# Altium footprint library pulse control.PcbLib: 23 footprints (part 1 of 2)
Each footprint in its own frame and in the unit in brackets; x right, y up, seen from the top. Pads: shape width x height; smd on the part's side, far side on the other; paste and mask are expansions set on the pad; w line width, h text height; cw(c..) or ccw(c..) is an arc to the next point about the centre after c.
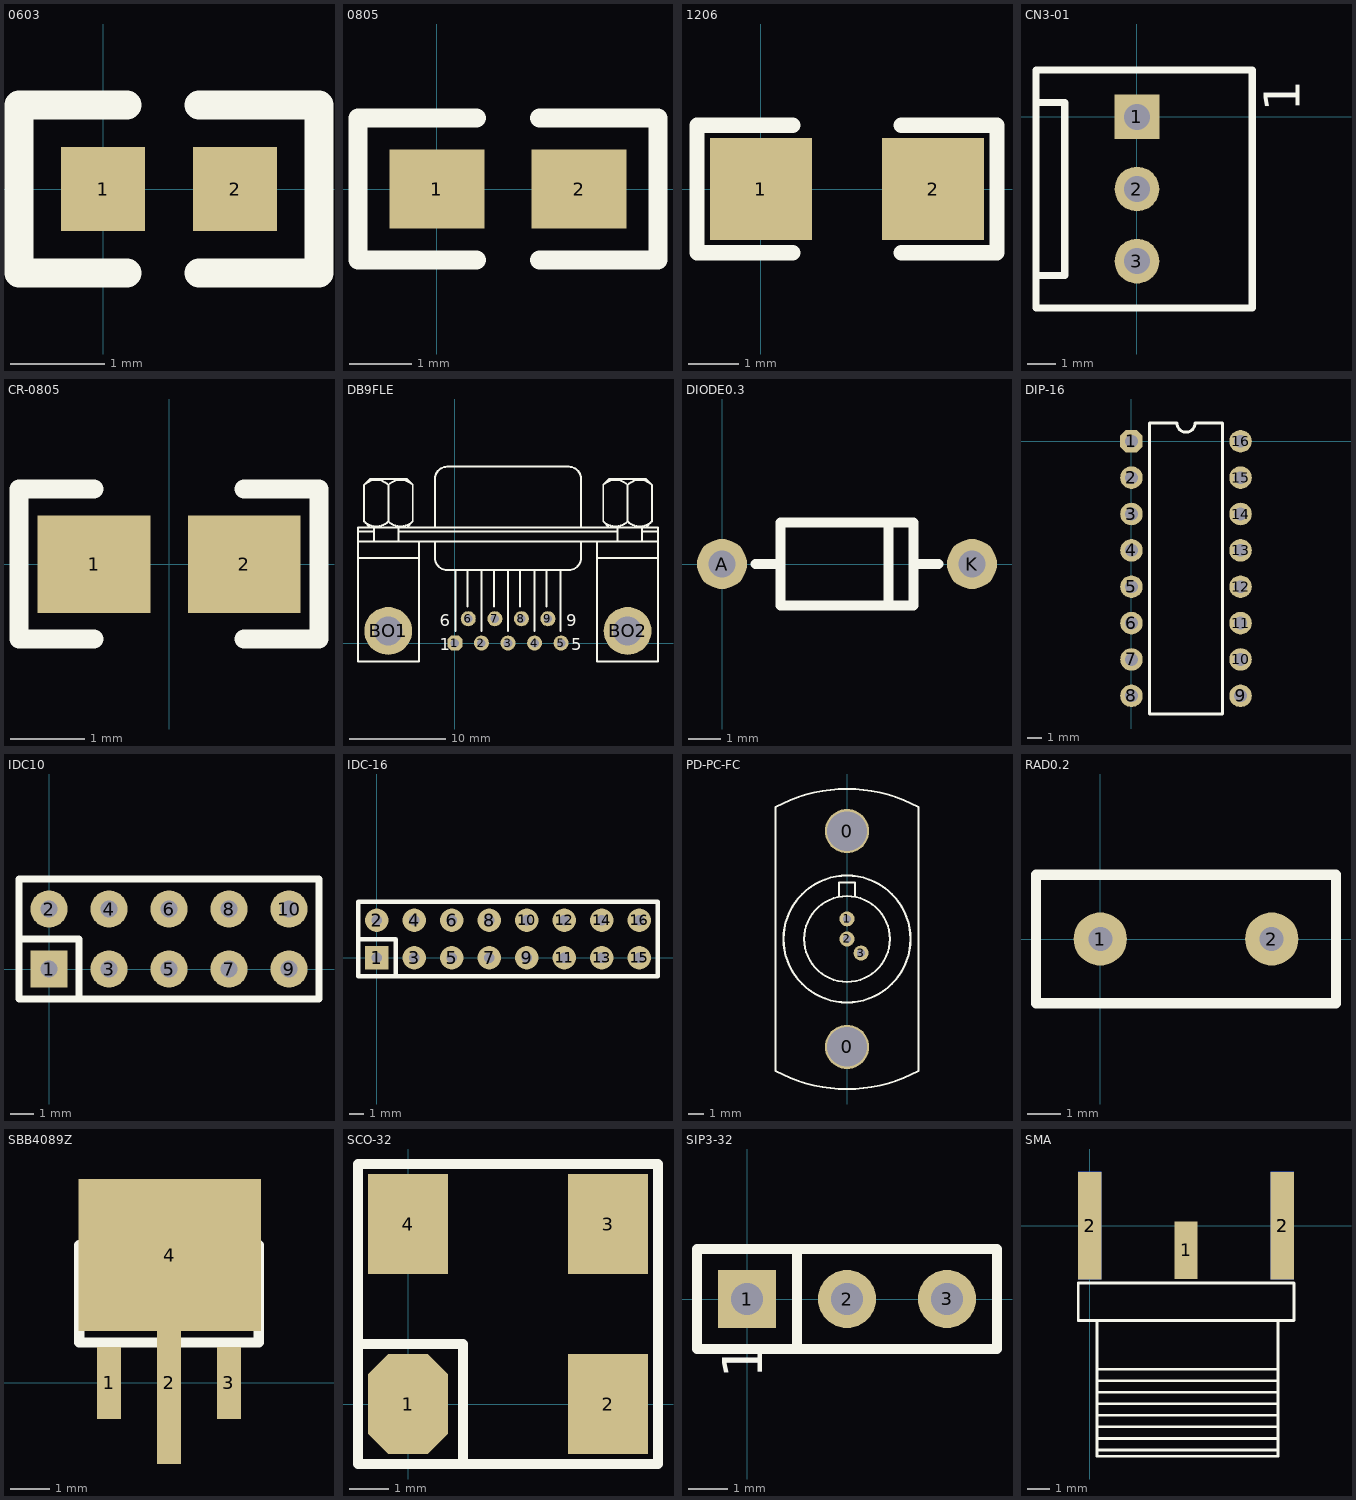
[diagram p0: the footprints below, top view; thin cyan lines are the x and y axes]

## 0603 [mil]
pads (2):
  rect 35x35 smd: 1(0,0) 2(55,0)
Top Overlay:
  lines w12: 10,-35 -35,-35 -35,35 10,35 ; 40,-35 90,-35 90,35 40,35

## 0805 [mil]
pads (2):
  rect 60x50 smd: 1(0,0) 2(90,0)
Top Overlay:
  lines w12: 25,-45 -50,-45 -50,45 25,45 ; 65,-45 140,-45 140,45 65,45

## 1206 [mil]
pads (2):
  rect 80x80 smd: 1(0,0) 2(135,0)
Top Overlay:
  lines w12: 25,-50 -50,-50 -50,50 25,50 ; 110,-50 185,-50 185,50 110,50

## CN3-01 [mil]
pads (3):
  rect 62x62 hole 36: 1(0,0)
  round 62 hole 36: 2(0,-100) 3(0,-200)
Top Overlay:
  lines w10: -140,-220 -100,-220 -100,20 -140,20 ; -140,-265 -140,65 160,65 160,-265 -140,-265
  text "1" at 226,7 h50

## CR-0805 [mil]
pads (2):
  rect 60x52 smd: 1(-40,0) 2(40,0)
Top Overlay:
  lines w10: -40,-40 -80,-40 -80,40 -40,40 ; 40,-40 80,-40 80,40 40,40

## DB9FLE [mil]
pads (11):
  oct 62x62 hole 35: 1(0,0)
  round 62 hole 35: 2(109.17,0) 3(218.33,0) 4(327.5,0) 5(436.67,0) 6(55,100) 7(164.17,100) 8(273.33,100) 9(382.5,100)
  round 196.67 hole 118.33: BO1(-274.17,50) BO2(710,50)
Top Overlay:
  lines w8: -398.33,350 -148.33,350 ; -398.33,416.67 835,416.67 ; -398.33,458.33 -331.67,458.33 ; -373.42,499.91 ccw(c-323.33,550) -273.25,499.91 ; -373.42,650.09 cw(c-323.33,600) -273.25,650.09 ; -348.33,475 -373.33,500 -373.33,650 -348.33,675 -198.33,675 -173.33,650 -173.33,500 -198.33,475 ; -331.67,416.67 -331.67,475 ; -273.42,499.91 ccw(c-223.33,550) -173.25,499.91 ; -273.42,650.09 cw(c-223.33,600) -173.25,650.09 ; -273.33,500 -273.33,650 ; -231.67,416.67 -231.67,475 ; -231.67,458.33 668.33,458.33 ; -148.33,416.67 -148.33,-75 -398.33,-75 -398.33,475 835,475 835,-75 585,-75 585,416.67 ; -81.67,416.67 -81.67,350 ccw(c-31.67,350) -31.67,300 468.33,300 ccw(c468.33,350) 518.33,350 518.33,416.67 ; -81.67,475 -81.67,675 cw(c-31.67,675) -31.67,725 468.33,725 cw(c468.33,675) 518.33,675 518.33,475 ; 1.67,50 1.67,300 ; 51.67,150 51.67,300 ; 110,50 110,300 ; 160,150 160,300 ; 218.33,50 218.33,300 ; 268.33,150 268.33,300 ; 326.67,50 326.67,300 ; 376.67,150 376.67,300 ; 435,50 435,300 ; 585,350 835,350 ; 609.91,499.91 ccw(c660,550) 710.09,499.91 ; 609.91,650.09 cw(c660,600) 710.09,650.09 ; 635,475 610,500 610,650 635,675 785,675 810,650 810,500 785,475 ; 668.33,416.67 668.33,475 ; 709.91,499.91 ccw(c760,550) 810.09,499.91 ; 709.91,650.09 cw(c760,600) 810.09,650.09 ; 710,500 710,650 ; 768.33,416.67 768.33,475 ; 768.33,458.33 835,458.33
  text "6" at -61.67,70 h50
  text "1" at -61.67,-30 h50
  text "5" at 478.33,-30 h50
  text "9" at 458.33,70 h50

## DIODE0.3 [mil]
pads (2):
  round 60 hole 32: A(0,0) K(300,0)
Top Overlay:
  lines w12: 40,0 70,0 ; 200,-50 200,50 ; 230,0 260,0 ; 70,-50 70,50 230,50 230,-50 70,-50

## DIP-16 [mil]
pads (16):
  oct 62x62 hole 35: 1(0,0)
  round 62 hole 35: 2(0,-100) 3(0,-200) 4(0,-300) 5(0,-400) 6(0,-500) 7(0,-600) 8(0,-700) 9(300,-700) 10(300,-600) 11(300,-500) 12(300,-400) 13(300,-300) 14(300,-200) 15(300,-100) 16(300,0)
Top Overlay:
  lines w7.87: 50,-750 50,50 125,50 ccw(c150,50) 175,50 250,50 250,-750 50,-750

## IDC10 [mil]
pads (10):
  rect 62x62 hole 28: 1(0,0)
  round 62 hole 28: 2(0,100) 3(100,0) 4(100,100) 5(200,0) 6(200,100) 7(300,0) 8(300,100) 9(400,0) 10(400,100)
Top Overlay:
  lines w12: -50,50 50,50 50,-50 ; -50,-50 -50,150 450,150 450,-50 -50,-50

## IDC-16 [mil]
pads (16):
  rect 62x62 hole 28: 1(0,0)
  round 62 hole 28: 2(0,100) 3(100,0) 4(100,100) 5(200,0) 6(200,100) 7(300,0) 8(300,100) 9(400,0) 10(400,100) 11(500,0) 12(500,100) 13(600,0) 14(600,100) 15(700,0) 16(700,100)
Top Overlay:
  lines w12: -50,50 50,50 50,-50 ; -50,-50 -50,150 750,150 750,-50 -50,-50

## PD-PC-FC [mm]
pads (5):
  round 2.794 hole 2.489: 0(0,44) 0(0,57.6)
  round 0.95 hole 0.51: 1(0,52.07) 2(0,50.8) 3(0.889,49.911)
Top Overlay:
  circle w0.127: c0,50.8 r4
  circle w0.127: c0,50.8 r2.7
  circle w0.127: c0,44 r1.23
  circle w0.127: c0,57.6 r1.23
  lines w0.12: -0.508,54.356 0.508,54.356
  lines w0.127: -0.508,53.467 -0.508,54.356 ; 0.508,53.467 0.508,54.356 ; -4.5,42.49 ccw(c0,50.8) 4.5,42.49 4.5,50.8 4.5,59.11 ccw(c0,50.8) -4.5,59.11 -4.5,50.8 -4.5,42.49

## RAD0.2 [mil]
pads (2):
  round 62 hole 28: 1(0,0) 2(200,0)
Top Overlay:
  lines w12: -75,-75 -75,75 275,75 275,-75 -75,-75

## SBB4089Z [mm]
pads (4):
  rect 0.6x1.8 smd: 1(25.4,0) 3(28.4,0)
  rect 0.6x4.064 smd: 2(26.9,0)
  rect 4.572x3.81 smd: 4(26.924,3.2)
Top Overlay:
  lines w0.254: 24.65,1.016 24.65,3.456 29.15,3.456 29.15,1.016 24.65,1.016

## SCO-32 [mil]
pads (4):
  oct 80x100 smd: 1(0,0)
  rect 80x100 smd: 2(200,0) 3(200,180) 4(0,180)
Top Overlay:
  lines w10: -50,60 55,60 55,-60 ; -50,-60 250,-60 250,240 -50,240 -50,-60

## SIP3-32 [mil]
pads (3):
  rect 58x58 hole 32: 1(0,0)
  round 58 hole 32: 2(100,0) 3(200,0)
Top Overlay:
  lines w10: 50,-50 50,50 ; -50,-50 250,-50 250,50 -50,50 -50,-50
  text "1" at 15,-80 h40

## SMA [mm]
pads (5):
  rect 1x2.54 smd: 1(4.25,-1.092)
  rect 1.02x4.75 smd: 2(0,0) 2(8.5,0)
  rect 1.02x4.75 smd far side: 2(0,0) 2(8.5,0)
Top Overlay:
  lines w0.127: 0.318,-9.906 8.318,-9.906 ; 0.318,-9.398 8.318,-9.398 ; 0.318,-8.89 8.318,-8.89 ; 0.318,-8.382 8.318,-8.382 ; 0.318,-7.874 8.318,-7.874 ; 0.318,-7.366 8.318,-7.366 ; 0.318,-6.858 8.318,-6.858 ; 0.318,-6.35 8.318,-6.35 ; 0.318,-4.254 0.318,-10.19 4.318,-10.19 8.318,-10.19 8.318,-4.254 ; 9.017,-4.189 9.017,-2.54 -0.508,-2.54 -0.508,-4.19 9.018,-4.19